# Altium schematic symbol library LED-BLUE.SchLib: 1 symbol
Pins are listed as number, name and electrical type; pins without a type are passive.

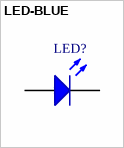
[diagram p0: symbol LED-BLUE]

## LED-BLUE
designator LED?
LED,BLUE
pins: 1 K, 2 A